# EAGLE library part 14110413001000 (library 14110413001000)
har-flexicon, 4pin male, vertical SMT pcb mount, 6Amps, pitch 2.54mm, 500pc reel Source: Datasheet <https://b2b.harting.com/files/download/PRD/PDF_DS/PDF_DS_14111400301.pdf>
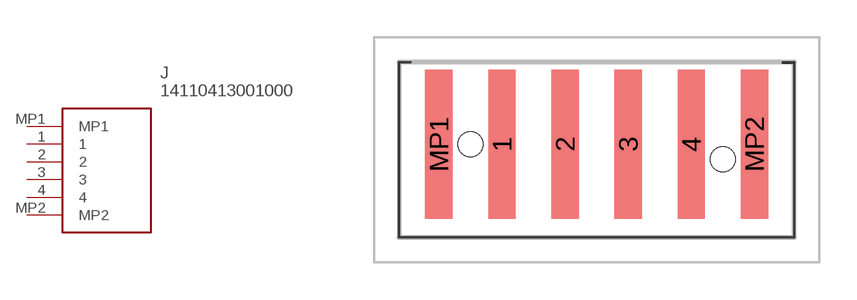
[diagram p0: symbol with the pads of 14110413001000; footprint 14110413001000]

Designator prefix J

## 14110413001000 (Arrow_Part_Number: 14110413001000; Arrow_Price-Stock: https://www.arrow.com/en/products/14110413001000/harting; Description: har-flexicon, 4pin male, vertical SMT pcb mount, 6Amps, pitch 2.54mm, 500pc reel; Height: 7.45mm; Manufacturer_Name: HARTING; Manufacturer_Part_Number: 14110413001000; Mouser_Part_Number: 617-14110413001000; Mouser_Price-Stock: https://www.mouser.co.uk/ProductDetail/HARTING/14110413001000?qs=9nYkJLYMUzsAxBjeg8lEaQ%3D%3D)  [14110413001000]
1  1
2  2
3  3
4  4
MP1  MP1
MP2  MP2

## Footprint 14110413001000 (pad centres in mm)
14110413001000-2
smd 1.1 x 6: 1 -3.81,0; 2 -1.27,0; 3 1.27,0; 4 3.81,0; MP1 -6.35,0; MP2 6.35,0
hole 1 at -5.08,0
hole 1 at 5.08,-0.6